# Altium footprint library MB1842.PcbLib: 31 footprints (part 2 of 2)
Each footprint in its own frame and in the unit in brackets; x right, y up, seen from the top. Pads: shape width x height; smd on the part's side, far side on the other; paste and mask are expansions set on the pad; w line width, h text height; cw(c..) or ccw(c..) is an arc to the next point about the centre after c.
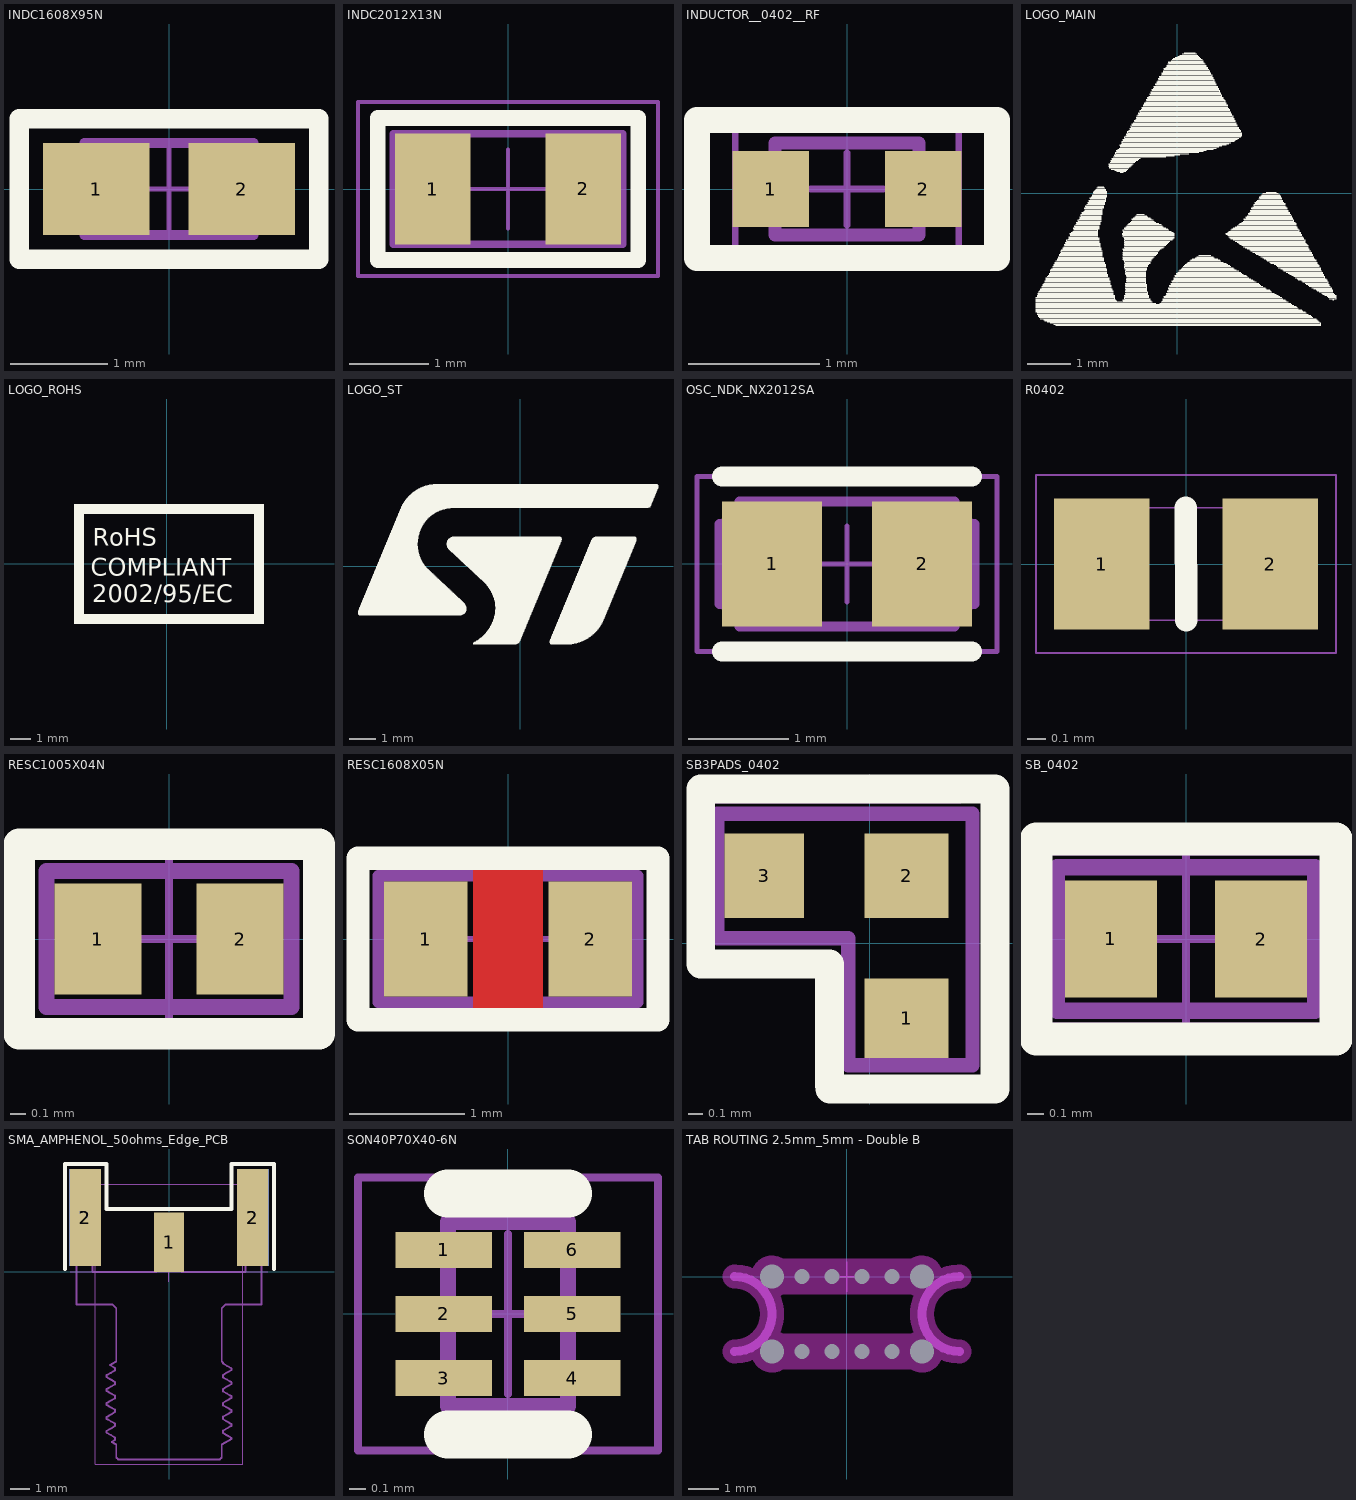
[diagram p1: the footprints below, top view; thin cyan lines are the x and y axes]

## INDC1608X95N [mm] "Chip Inductor, 2-Leads, Body 1.75x0.95x0.95mm (0603)"
height 0.95
pads (2):
  rect 1.1x0.95 smd: 1(-0.75,0) 2(0.75,0)
Top Overlay:
  lines w0.2: -1.548,-0.725 1.548,-0.725 1.548,0.725 -1.548,0.725 -1.548,-0.725
Top Assembly (Mech14):
  lines w0.1: -0.875,-0.475 0.875,-0.475 0.875,0.475 -0.875,0.475 -0.875,-0.475
  text ".Designator" at 0.45,-0.8 h1.25
Mechanical 17:
  lines w0.05: -0.475,0 0.475,0 ; 0,-0.475 0,0.475 ; -1.55,-0.725 1.55,-0.725 1.55,0.725 -1.55,0.725 -1.55,-0.725
3D body "Chip Inductor 0603.step": height 0.8, standoff 0, extent -0.8,-0.475 0.8,0.475

## INDC2012X13N [mm] "Chip Inductor, 2-Leads, Body 2.0x1.2x1.3 (0805)"
height 1.3
pads (2):
  rect 0.96x1.4 smd: 1(-0.952,0) 2(0.952,0)
Top Overlay:
  lines w0.2: -1.65,-0.9 1.65,-0.9 1.65,0.9 -1.65,0.9 -1.65,-0.9
Top Assembly (Mech14):
  lines w0.1: -1.452,-0.7 -1.453,0.7 1.452,0.7 1.453,-0.7 -1.452,-0.7
  text ".Designator" at -0.45,-0.35 h1.25
Mechanical 17:
  lines w0.05: -0.5,0 0.5,0 ; 0,-0.5 0,0.5 ; -1.9,-1.1 -1.9,1.1 1.9,1.1 1.9,-1.1 -1.9,-1.1
3D body "Chip InductorINDC2012X130N.step": height 1.18, standoff -0.02, extent -1,-0.65 1,0.65

## INDUCTOR__0402__RF [mm] "Inductor 2-Leads,Body 1.10x0.70x0.60mm(max)"
height 0.6
pads (2):
  rect 0.582x0.582 smd: 1(-0.58,0) 2(0.58,0)
Top Overlay:
  lines w0.2: -1.143,-0.525 1.143,-0.525 1.143,0.525 -1.143,0.525 -1.143,-0.525
Top Assembly (Mech14):
  lines w0.1: -0.55,-0.35 -0.55,0.35 0.55,0.35 0.55,-0.35 -0.55,-0.35
  text ".Designator" at 1.05,-0.45 h1.25
Mechanical 17:
  lines w0.05: -0.275,0 0.275,0 ; 0,-0.275 0,0.275 ; -0.85,-0.575 0.85,-0.575 0.85,0.575 -0.85,0.575 -0.85,-0.575
3D body "IND_MURATA_LQW15AN.step": height 0.51, standoff 0, extent -0.5,-0.3 0.5,0.3

## LOGO_MAIN [mm]
Top Overlay:
  drawing of 674 lines, arcs and shapes, not listed

## LOGO_ROHS [mm]
Top Overlay:
  rectangle: -4.625,-3.025 4.375,-2.525
  rectangle: -4.625,2.475 4.375,2.975
  region: -4.127,-3.025 -4.127,2.975 -4.627,2.975 -4.627,-3.025
  region: 4.872,-3.025 4.872,2.975 4.372,2.975 4.372,-3.025
  text "RoHS" at -3.7,0.6 h1.5
  text "COMPLIANT" at -3.8,-0.9 h1.5
  text "2002/95/EC" at -3.725,-2.225 h1.5

## LOGO_ST [mm]
Top Overlay:
  drawing of 1036 lines, arcs and shapes, not listed

## OSC_NDK_NX2012SA [mm] "Crystal, 2-Leads, Body 2.05x1.20x0.55mm (Tol:-/+0.05)"
height 0.55
pads (2):
  rect 1x1.25 smd: 1(-0.75,0) 2(0.75,0)
Top Overlay:
  lines w0.2: -1.25,-0.875 1.25,-0.875 ; -1.25,0.875 1.25,0.875
Top Assembly (Mech14):
  lines w0.1: -1.275,-0.4 cw(c-1.275,-0.6) -1.077,-0.625 1.077,-0.625 cw(c1.275,-0.6) 1.275,-0.4 1.275,0.4 cw(c1.275,0.6) 1.077,0.625 -1.077,0.625 cw(c-1.275,0.6) -1.275,0.4 -1.275,-0.4
  text ".Designator" at -0.65,-0.4 h1.25
Mechanical 17:
  lines w0.05: -0.381,0 0.381,0 ; 0,-0.381 0,0.381 ; -1.5,-0.875 -1.5,0.875 1.5,0.875 1.5,-0.875 -1.5,-0.875
3D body: height 0.55, standoff 0, extent -1.038,-0.625 1.025,0.625

## R0402 [mm]
pads (2):
  rect 0.51x0.7 smd mask+0.05: 1(-0.45,0) 2(0.45,0)
Top Overlay:
  lines w0.12: 0,-0.3 0,0.3
Top Assembly (Mech14):
  lines w0.01: -0.45,-0.3 0.45,-0.3 0.45,0.3 -0.45,0.3 -0.45,-0.3
  text "'.Designator'" at -2,-0.5 h0.75
Mechanical 16:
  lines w0.01: -0.8,-0.475 -0.8,0.475 0.8,0.475 0.8,-0.475 -0.8,-0.475
3D body "R0402.STEP": height 0.34, standoff 0, extent -0.52,-0.3 0.52,0.3
3D body: height 0.4, standoff 0, extent -0.455,-0.305 0.455,0.305

## RESC1005X04N [mm] "Chip Resistor, 2-Leads, Body 1.00x0.50mm (0402)"
height 0.4
pads (2):
  rect 0.55x0.7 smd: 1(-0.45,0) 2(0.45,0)
Top Overlay:
  lines w0.2: -0.95,-0.6 -0.95,0.6 0.95,0.6 0.95,-0.6 -0.95,-0.6
Top Assembly (Mech14):
  lines w0.1: -0.775,-0.43 -0.775,0.43 0.775,0.43 0.775,-0.43 -0.775,-0.43
  text ".Designator" at 0.45,0.85 h1.25
Mechanical 17:
  lines w0.05: -0.5,0 0.5,0 ; 0,-0.5 0,0.5 ; -0.9,-0.525 -0.9,0.525 0.9,0.525 0.9,-0.525 -0.9,-0.525
3D body "RESC1005X04N.step": height 0.35, standoff 0, extent -0.5,-0.25 0.5,0.25

## RESC1608X05N [mm] "Chip Resistor, 2-Leads, Body 1.60x0.80mm (0603)"
height 0.5
pads (2):
  rect 0.725x1 smd: 1(-0.713,0) 2(0.713,0)
Top Layer:
  pour cut-out: -0.3,0.7 0.3,0.7 0.3,-0.7 -0.3,-0.7
Top Overlay:
  lines w0.2: -1.3,-0.7 1.3,-0.7 1.3,0.7 -1.3,0.7 -1.3,-0.7
Top Assembly (Mech14):
  lines w0.1: -1.125,-0.55 -1.125,0.55 1.125,0.55 1.125,-0.55 -1.125,-0.55
  text ".Designator" at 0.65,0.4 h1.25
Mechanical 17:
  lines w0.05: -0.5,0 0.5,0 ; 0,-0.5 0,0.5 ; -1.3,-0.7 -1.3,0.7 1.3,0.7 1.3,-0.7 -1.3,-0.7
3D body "RESC1608X05N.step": height 0.45, standoff 0, extent -0.775,-0.425 0.775,0.425

## SB3PADS_0402 [mm] "Solder Bridge 0 Ohm (0402)"
height 0.6
pads (3):
  rect 0.582x0.55 smd: 1(0.255,-0.516)
  rect 0.582x0.582 smd: 2(0.255,0.467)
  rect 0.55x0.582 smd: 3(-0.728,0.467)
Top Overlay:
  lines w0.2: -1.167,-0.143 -1.167,1.067 0.865,1.067 0.865,-1.003 ; -1.142,-0.143 -0.278,-0.143 ; -0.278,-0.983 -0.278,-0.153 ; -0.274,-1.006 0.865,-1.006
Top Assembly (Mech14):
  lines w0.1: 0.71,-0.841 -0.15,-0.841 -0.15,0.037 -1.053,0.037 -1.053,0.897 0.71,0.897 0.71,-0.833
  text ".Designator" at -0.918,3.343 h1.25
Mechanical 17:
  lines w0.05: -1.178,0.992 0.622,0.992
3D body: height 0.25, standoff 0, extent 0.03,-0.49 0.53,0.51

## SB_0402 [mm] "Solder Bridge 0 Ohm (0402)"
height 0.6
pads (2):
  rect 0.55x0.7 smd: 1(-0.45,0) 2(0.45,0)
Top Overlay:
  lines w0.2: -0.9,-0.6 0.9,-0.6 0.9,0.6 -0.9,0.6 -0.9,-0.6
Top Assembly (Mech14):
  lines w0.1: -0.775,-0.43 0.775,-0.43 0.775,0.43 -0.775,0.43 -0.775,-0.43
  text ".Designator" at -1.1,0.4 h1.25
Mechanical 17:
  lines w0.05: -0.5,0 0.5,0 ; 0,-0.5 0,0.5 ; -0.9,-0.525 0.9,-0.525 0.9,0.525 -0.9,0.525 -0.9,-0.525
3D body: height 0.25, standoff 0, extent -0.5,-0.25 0.5,0.25

## SMA_AMPHENOL_50ohms_Edge_PCB [mm] "RF Connector, SMA End Launch Jack for 0.047 inch (1.19 mm thickness) PCB, 50 Ohm, Flat Tab Contact"
height 6.35
pads (5):
  rect 1.5x3 smd mask+0.05: 1(0,1.5)
  rect 1.6x4.9 smd mask+0.05: 2(-4.25,2.75) 2(4.25,2.75)
  rect 1.6x4.9 smd far side mask+0.05: 2(-4.25,2.75) 2(4.25,2.75)
Top Overlay:
  lines w0.2: -5.274,0.127 -5.274,5.466 -3.175,5.466 ; -3.175,5.461 -3.175,3.188 3.175,3.188 3.175,5.461 ; 3.175,5.466 5.332,5.466 5.332,0.127
Top Assembly (Mech14):
  lines w0.1: -3.164,-8.074 -3.164,-8.162 -3.15,-8.169 ; -3.164,-7.369 -3.164,-7.456 -3.15,-7.464 ; -3.164,-6.663 -3.164,-6.751 -3.15,-6.758 ; -3.164,-5.958 -3.164,-6.045 -3.151,-6.052 ; -3.164,-5.252 -3.164,-5.34 -3.152,-5.346 ; -3.158,-6.052 -2.948,-6.173 -2.744,-6.291 ; -3.159,-5.951 -2.949,-5.829 -2.739,-5.708 ; -3.159,-5.346 -2.949,-5.468 -2.744,-5.586 ; -3.158,-5.245 -2.948,-5.124 -2.738,-5.002 ; -3.157,-8.169 -2.947,-8.291 -2.744,-8.408 ; -3.157,-8.067 -2.947,-7.945 -2.737,-7.823 ; -3.157,-7.464 -2.947,-7.585 -2.744,-7.703 ; -3.157,-7.361 -2.947,-7.24 -2.737,-7.118 ; -3.157,-6.758 -2.947,-6.88 -2.744,-6.997 ; -3.157,-6.656 -2.947,-6.534 -2.737,-6.413 ; -2.992,-4.737 -2.947,-4.763 -2.744,-4.88 ; -2.991,-4.732 -2.675,-4.55 -2.675,-1.85 -2.875,-1.65 -4.699,-1.65 -4.699,0 -4.699,3.81 -3.889,3.81 -3.889,0 -0.635,0 -0.635,2.096 ; -2.9,-8.63 -2.675,-8.76 -2.675,-9.42 -2.575,-9.52 0,-9.52 2.575,-9.52 2.675,-9.42 2.675,-8.76 3.164,-8.478 3.164,-8.427 3.152,-8.42 ; -2.901,-8.624 -2.737,-8.529 ; -2.744,-8.533 -2.744,-8.404 ; -2.744,-7.828 -2.744,-7.698 ; -2.744,-7.122 -2.744,-6.993 ; -2.744,-6.417 -2.744,-6.287 ; -2.744,-5.711 -2.744,-5.582 ; -2.744,-5.006 -2.744,-4.876 ; -0.637,2.096 -0.337,2.396 -0.002,2.396 0.333,2.396 0.633,2.096 ; 0.635,2.096 0.635,0 3.889,0 3.889,3.81 4.699,3.81 4.699,0 4.699,-1.65 2.875,-1.65 2.675,-1.85 2.675,-4.55 2.744,-4.59 2.744,-4.653 2.947,-4.77 3.157,-4.892 ; 2.737,-7.354 2.947,-7.232 3.157,-7.111 ; 2.737,-6.649 2.947,-6.527 3.157,-6.406 ; 2.737,-5.943 2.947,-5.822 3.157,-5.7 ; 2.737,-5.237 2.947,-5.116 3.157,-4.994 ; 2.739,-8.059 2.949,-7.937 3.159,-7.816 ; 2.744,-8.185 2.744,-8.055 ; 2.744,-8.181 2.949,-8.299 3.159,-8.42 ; 2.744,-7.479 2.744,-7.35 ; 2.744,-7.475 2.948,-7.593 3.158,-7.715 ; 2.744,-6.774 2.744,-6.644 ; 2.744,-6.77 2.947,-6.887 3.157,-7.008 ; 2.744,-6.068 2.744,-5.939 ; 2.744,-6.064 2.947,-6.181 3.157,-6.303 ; 2.744,-5.363 2.744,-5.233 ; 2.744,-5.358 2.947,-5.476 3.157,-5.597 ; 3.15,-7.008 3.164,-7.016 3.164,-7.104 ; 3.15,-6.303 3.164,-6.31 3.164,-6.398 ; 3.15,-5.597 3.164,-5.605 3.164,-5.692 ; 3.151,-7.715 3.164,-7.721 3.164,-7.809 ; 3.151,-4.892 3.164,-4.899 3.164,-4.987
  text ".Designator" at 5.774,2.8 h1.25
Mechanical 16:
  lines w0.01: -5,0 5,0
Mechanical 17:
  lines w0.05: -0.5,0 0.5,0 ; 0,-0.5 0,0.5 ; 3.73,4.43 -3.75,4.43 -3.75,-9.75 3.75,-9.75 3.75,4.43
3D body "132430.stp": height 4.09, standoff -3.83, extent -4.76,-9.647 4.76,4.623

## SON40P70X40-6N [mm] "SON, 6-Leads, Body 1.10x0.70mm, Pitch 0.40mm"
height 0.4
pads (6):
  rect 0.6x0.225 smd: 1(-0.4,0.4) 2(-0.4,0) 3(-0.4,-0.4) 4(0.4,-0.4) 5(0.4,0) 6(0.4,0.4)
Top Overlay:
  lines w0.3: -0.375,-0.75 0.375,-0.75 ; -0.375,0.75 0.375,0.75
  text "." at -1.2,0.9 h4
Top Assembly (Mech14):
  lines w0.1: -0.375,-0.575 -0.375,0.575 0.375,0.575 0.375,-0.575 -0.375,-0.575
  text "." at -0.325,0.55 h4
  text ".Designator" at -0.6,-0.65 h1.25
Mechanical 17:
  lines w0.05: -0.5,0 0.5,0 ; 0,-0.5 0,0.5 ; -0.935,-0.85 -0.935,0.85 0.935,0.85 0.935,-0.85 -0.935,-0.85
3D body "SON40P70X40-6N.step": height 0.4, standoff 0, extent -0.376,-0.575 0.376,0.575

## TAB ROUTING 2.5mm_5mm - Double B [mm] "Tab Routing-Breakaway 2.5mm space 5.00mm"
pads (12):
  round 0.2 hole 0.8 unplated: 1(-2.5,-2.5) 1(-2.5,0) 1(2.5,-2.5) 1(2.5,0)
  round 0.2 hole 0.5 unplated: 2(-1.5,-2.5) 2(-1.5,0) 3(-0.5,-2.5) 3(-0.5,0) 4(0.5,-2.5) 4(0.5,0) 5(1.5,-2.5) 5(1.5,0)
Keep-Out Layer:
  circle w0.7: c-2.5,0 r0.35
  circle w0.7: c2.5,0 r0.35
  circle w0.7: c2.5,-2.5 r0.35
  circle w0.7: c-2.5,-2.5 r0.35
  rectangle: -2.5,-0.599 2.5,0.601
  rectangle: -2.5,-3.099 2.5,-1.899
  lines w0.8: -3.75,-2.5 ccw(c-3.75,-1.25) -3.75,0 ; 3.75,-2.5 cw(c3.75,-1.25) 3.75,0
Mechanical 1:
  lines w0.3: -3.75,-2.5 ccw(c-3.75,-1.25) -3.75,0 ; 3.75,-2.5 cw(c3.75,-1.25) 3.75,0
Mechanical 17:
  lines w0.05: -0.5,0 0.5,0 ; 0,-0.5 0,0.5